# EAGLE library part MCP1640 (library GRITSBot)
0.65V Start-up Synchronous Boost Regulator with True Output Disconnect or Input/Output Bypass Option The MCP1640/B/C/D is a compact, high-efficiency, fixed frequency, synchronous step-up DC-DC converter. It provides an easy-to-use power supply solution for applications powered by either one-cell, two-cell, or three-cell alkaline, NiCd, NiMH, one-cell Li-Ion or Li-Polymer batteries. See http://www.mouser.com/ds/2/268/22234A-71395.pdf
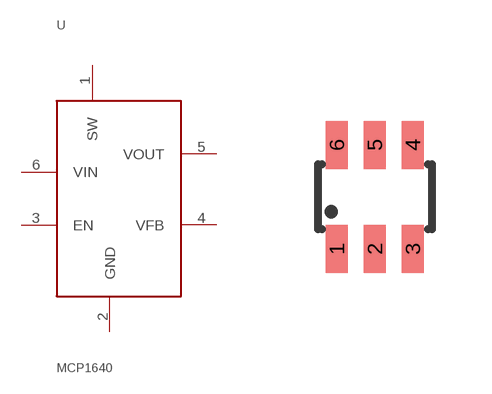
[diagram p12: symbol with the pads of SOT23-6-MCP1640; footprint SOT23-6-MCP1640]

Designator prefix -

## MCP1640  [SOT23-6-MCP1640]
1  SW
2  GND
3  EN
4  VFB
5  VOUT
6  VIN

## Footprint SOT23-6-MCP1640 (pad centres in mm)
smd 0.55 x 1.2: 1 -0.95,-1.3; 2 0,-1.3; 3 0.95,-1.3; 4 0.95,1.3; 5 0,1.3; 6 -0.95,1.3